# Altium footprint library STL6P3LLH6.PcbLib: 1 footprints
Each footprint in its own frame and in the unit in brackets; x right, y up, seen from the top. Pads: shape width x height; smd on the part's side, far side on the other; paste and mask are expansions set on the pad; w line width, h text height; cw(c..) or ccw(c..) is an arc to the next point about the centre after c.
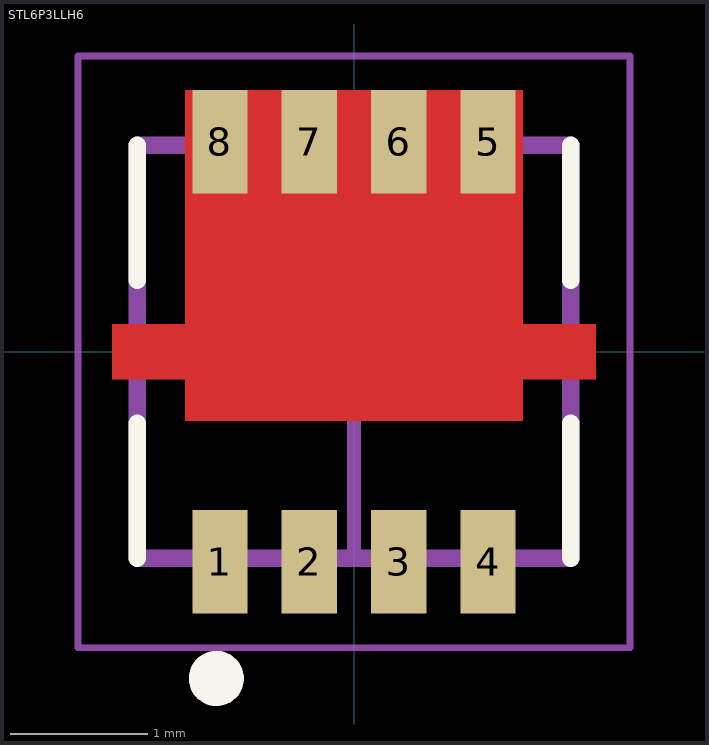
[diagram p0: the footprint, top view; thin cyan lines are the x and y axes]

## STL6P3LLH6 [mm]
height 0.9
pads (8):
  rect 0.4x0.75 smd mask+0.05: 1(-0.975,-1.525) 2(-0.325,-1.525) 3(0.325,-1.525) 4(0.975,-1.525) 5(0.975,1.525) 6(0.325,1.525) 7(-0.325,1.525) 8(-0.975,1.525)
Top Layer:
  region: -1.225,0.2 -1.225,1.9 1.225,1.9 1.225,0.2 1.755,0.2 1.755,-0.2 1.225,-0.2 1.225,-0.5 -1.225,-0.5 -1.225,-0.2 -1.755,-0.2 -1.755,0.2
Top Overlay:
  circle w0.2: c-1,-2.373 r0.1
  lines w0.127: -1.575,-1.5 -1.575,-0.52 ; -1.575,0.52 -1.575,1.5 ; 1.575,-1.5 1.575,-0.52 ; 1.575,0.52 1.575,1.5
Top Paste:
  region: -1.23,0.2 -1.23,-0.2 -1.755,-0.2 -1.755,0.2
  region: 1.755,0.2 1.755,-0.2 1.23,-0.2 1.23,0.2
Top Assembly:
  circle w0.2: c-1,-2.373 r0.1
  lines w0.1: 0,-1.5 0,1.5
  lines w0.127: -1.575,-1.5 -1.575,1.5 1.575,1.5 1.575,-1.5 -1.575,-1.5
  text ".Designator" at -3.71,-0.344 h1.52
Top Courtyard:
  lines w0.05: -2.005,-2.15 -2.005,2.15 2.005,2.15 2.005,-2.15 -2.005,-2.15
3D body "step_temp.STEP": height 0.9, standoff 0, extent -1.65,-1.65 1.65,1.65